# EAGLE library part ATSAMD21E17D-MUT (library ATSAMDE17D)
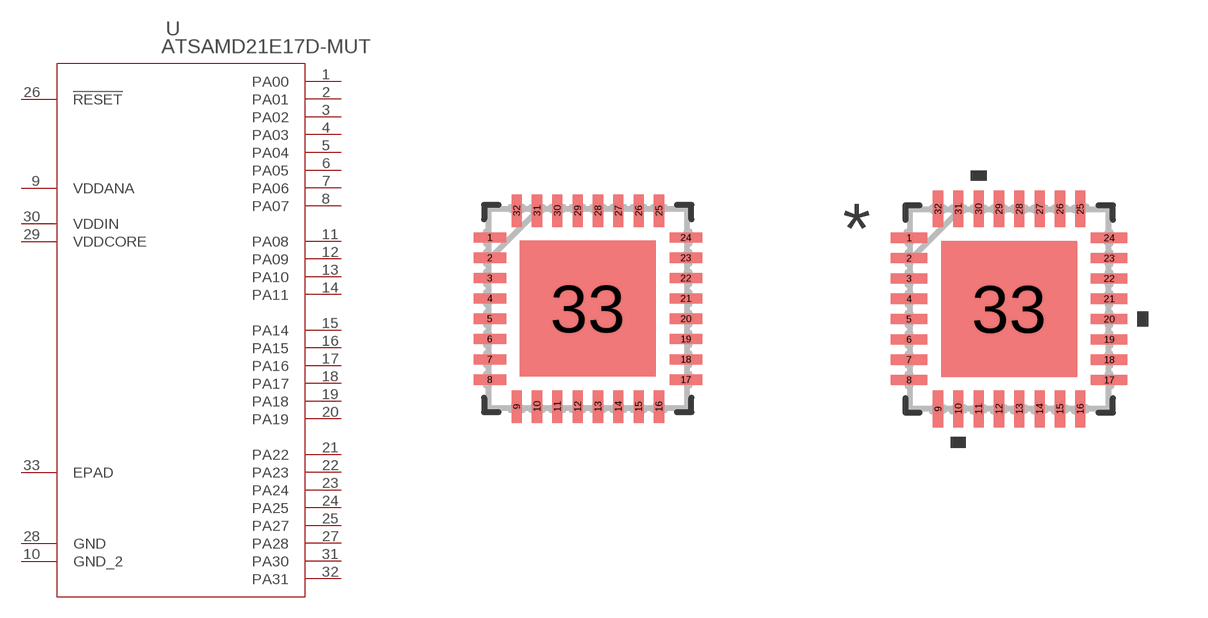
[diagram p0: symbol with the pads of QFN32_5X5MC_MCH; footprints QFN32_5X5MC_MCH, QFN32_5X5MC_MCH-M]

Designator prefix U

## ATSAMD21E17D-MUT (COPYRIGHT: Copyright (C) 2022 Ultra Librarian. All rights reserved.; DIGI-KEY_PART_NUMBER_1: ATSAMD21E17D-MUTCT-ND; DIGI-KEY_PART_NUMBER_2: ATSAMD21E17D-MUTDKR-ND; DIGI-KEY_PART_NUMBER_3: ATSAMD21E17D-MUTTR-ND; MANUFACTURER_PART_NUMBER: ATSAMD21E17D-MUT; MFR_NAME: Microchip)  [QFN32_5X5MC_MCH]
1  PA00
2  PA01
3  PA02
4  PA03
5  PA04
6  PA05
7  PA06
8  PA07
9  VDDANA  pwr
10  GND_2  pas
11  PA08
12  PA09
13  PA10
14  PA11
15  PA14
16  PA15
17  PA16
18  PA17
19  PA18
20  PA19
21  PA22
22  PA23
23  PA24
24  PA25
25  PA27
26  !RESET  pas
27  PA28
28  GND  pas
29  VDDCORE  pwr
30  VDDIN  pwr
31  PA30
32  PA31
33  EPAD  pas

## ATSAMD21E17D-MUTQFN32_5X5MC_MCH-M (COPYRIGHT: Copyright (C) 2022 Ultra Librarian. All rights reserved.; DIGI-KEY_PART_NUMBER_1: ATSAMD21E17D-MUTCT-ND; DIGI-KEY_PART_NUMBER_2: ATSAMD21E17D-MUTDKR-ND; DIGI-KEY_PART_NUMBER_3: ATSAMD21E17D-MUTTR-ND; MANUFACTURER_PART_NUMBER: ATSAMD21E17D-MUT; MFR_NAME: Microchip)  [QFN32_5X5MC_MCH-M]
Pads as for QFN32_5X5MC_MCH

## ATSAMD21E17D-MUTQFN32_5X5MC_MCH-L (COPYRIGHT: Copyright (C) 2022 Ultra Librarian. All rights reserved.; DIGI-KEY_PART_NUMBER_1: ATSAMD21E17D-MUTCT-ND; DIGI-KEY_PART_NUMBER_2: ATSAMD21E17D-MUTDKR-ND; DIGI-KEY_PART_NUMBER_3: ATSAMD21E17D-MUTTR-ND; MANUFACTURER_PART_NUMBER: ATSAMD21E17D-MUT; MFR_NAME: Microchip)  [QFN32_5X5MC_MCH-L]
Pads as for QFN32_5X5MC_MCH

## Footprint QFN32_5X5MC_MCH (pad centres in mm)
smd 0.813 x 0.254: 1 -2.451,1.778; 2 -2.451,1.27; 3 -2.451,0.762; 4 -2.451,0.254; 5 -2.451,-0.254; 6 -2.451,-0.762; 7 -2.451,-1.27; 8 -2.451,-1.778; 17 2.451,-1.778; 18 2.451,-1.27; 19 2.451,-0.762; 20 2.451,-0.254; 21 2.451,0.254; 22 2.451,0.762; 23 2.451,1.27; 24 2.451,1.778
smd 0.254 x 0.813: 9 -1.778,-2.451; 10 -1.27,-2.451; 11 -0.762,-2.451; 12 -0.254,-2.451; 13 0.254,-2.451; 14 0.762,-2.451; 15 1.27,-2.451; 16 1.778,-2.451; 25 1.778,2.451; 26 1.27,2.451; 27 0.762,2.451; 28 0.254,2.451; 29 -0.254,2.451; 30 -0.762,2.451; 31 -1.27,2.451; 32 -1.778,2.451
smd 3.404 x 3.404: 33 0,0

## Footprint QFN32_5X5MC_MCH-M (pad centres in mm)
smd 0.914 x 0.254: 1 -2.502,1.778; 2 -2.502,1.27; 3 -2.502,0.762; 4 -2.502,0.254; 5 -2.502,-0.254; 6 -2.502,-0.762; 7 -2.502,-1.27; 8 -2.502,-1.778; 17 2.502,-1.778; 18 2.502,-1.27; 19 2.502,-0.762; 20 2.502,-0.254; 21 2.502,0.254; 22 2.502,0.762; 23 2.502,1.27; 24 2.502,1.778
smd 0.254 x 0.914: 9 -1.778,-2.502; 10 -1.27,-2.502; 11 -0.762,-2.502; 12 -0.254,-2.502; 13 0.254,-2.502; 14 0.762,-2.502; 15 1.27,-2.502; 16 1.778,-2.502; 25 1.778,2.502; 26 1.27,2.502; 27 0.762,2.502; 28 0.254,2.502; 29 -0.254,2.502; 30 -0.762,2.502; 31 -1.27,2.502; 32 -1.778,2.502
smd 3.404 x 3.404: 33 0,0

## Footprint QFN32_5X5MC_MCH-L (pad centres in mm)
smd 0.711 x 0.254: 1 -2.4,1.778; 2 -2.4,1.27; 3 -2.4,0.762; 4 -2.4,0.254; 5 -2.4,-0.254; 6 -2.4,-0.762; 7 -2.4,-1.27; 8 -2.4,-1.778; 17 2.4,-1.778; 18 2.4,-1.27; 19 2.4,-0.762; 20 2.4,-0.254; 21 2.4,0.254; 22 2.4,0.762; 23 2.4,1.27; 24 2.4,1.778
smd 0.254 x 0.711: 9 -1.778,-2.4; 10 -1.27,-2.4; 11 -0.762,-2.4; 12 -0.254,-2.4; 13 0.254,-2.4; 14 0.762,-2.4; 15 1.27,-2.4; 16 1.778,-2.4; 25 1.778,2.4; 26 1.27,2.4; 27 0.762,2.4; 28 0.254,2.4; 29 -0.254,2.4; 30 -0.762,2.4; 31 -1.27,2.4; 32 -1.778,2.4
smd 3.404 x 3.404: 33 0,0